# EAGLE library part MICROCHIP_MCP1642B-ADJ (library custom)
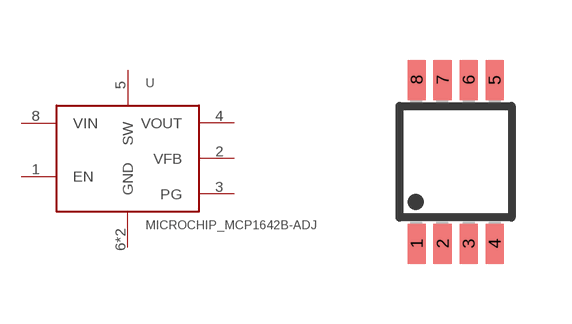
[diagram p13: symbol with the pads of MICROCHIP_MSOP8; footprint MICROCHIP_MSOP8]

Designator prefix U

## MICROCHIP_MCP1642B-ADJ  [MICROCHIP_MSOP8]
1  EN  in
2  VFB
3  PG
4  VOUT
5  SW
6  GND  pwr
7  GND  pwr
8  VIN  pwr

## Footprint MICROCHIP_MSOP8 (pad centres in mm)
Micro Small Outline Package Grid 0.65mm Source: http://ww1.microchip.com/downloads/en/DeviceDoc/21796H.pdf
smd 0.45 x 1: 1 -0.975,-2.05; 2 -0.325,-2.05; 3 0.325,-2.05; 4 0.975,-2.05; 5 0.975,2.05; 6 0.325,2.05; 7 -0.325,2.05; 8 -0.975,2.05